# Altium schematic symbol library RA08T.SCHLIB: 18 symbols
Pins are listed as number, name and electrical type; pins without a type are passive.

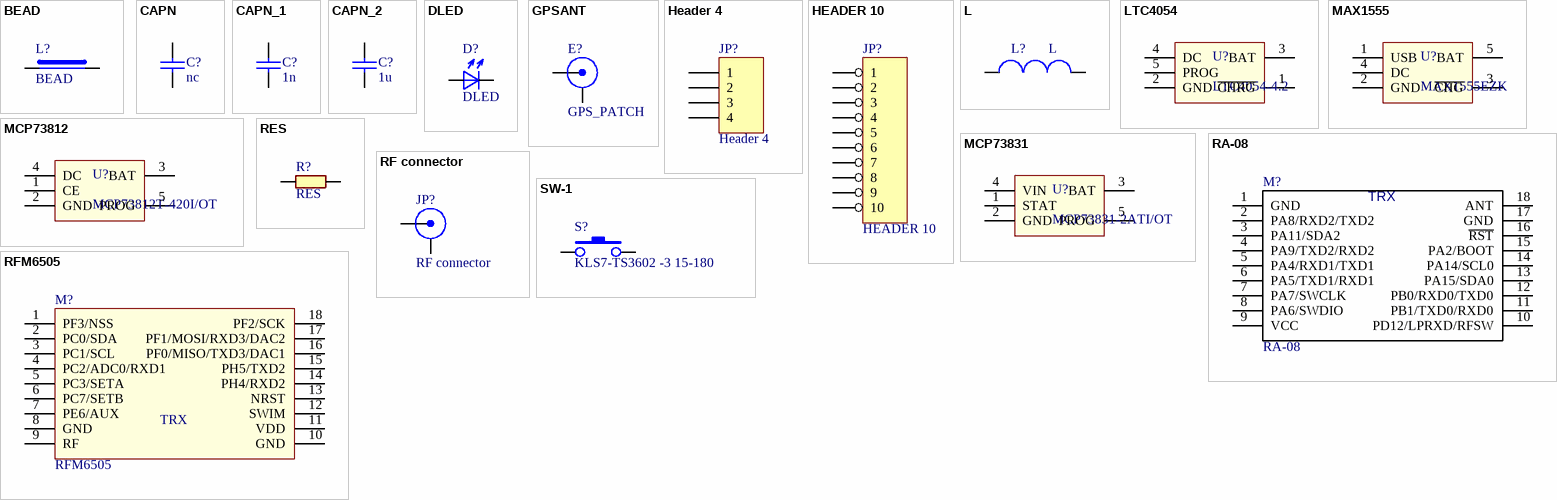
[diagram p0: symbols BEAD to SW-1]

## BEAD
designator L?
Вид: Ferrite bead
footprint L-1210
footprint L-0603 (Chip Inductor, 2-Leads, Body 1,60x0,80mm, IPC Medium Density)
footprint L-0402
pins: 1, 2

## CAPN
designator C?, comment nc
Voltage: 50V; Точність/група: NP0; Вид: Конденсатор
footprint C-0603
footprint C-0805
footprint C-1206
footprint C-0402 (Chip Capacitor, 2-Leads, Body 1,00x0,50mm, IPC Medium Density)
footprint C-1210 (Chip Capacitor, 2-Leads, Body 3,20x2,50mm, IPC Medium Density)
footprint C-1812 (Chip Capacitor, 2-Leads, Body 4,50x3,20mm, IPC Medium Density)
pins: 1, 2

## CAPN_1
designator C?, comment 1n
Voltage: 50V; Точність/група: NP0; Вид: Конденсатор
footprint C-0603
footprint C-0805
footprint C-1206
footprint C-0402 (Chip Capacitor, 2-Leads, Body 1,00x0,50mm, IPC Medium Density)
footprint C-1210 (Chip Capacitor, 2-Leads, Body 3,20x2,50mm, IPC Medium Density)
footprint C-1812 (Chip Capacitor, 2-Leads, Body 4,50x3,20mm, IPC Medium Density)
pins: 1, 2

## CAPN_2
designator C?, comment 1u
Voltage: 50V; Точність/група: NP0; Вид: Конденсатор
footprint C-0603
footprint C-0805
footprint C-1206
footprint C-0402 (Chip Capacitor, 2-Leads, Body 1,00x0,50mm, IPC Medium Density)
footprint C-1210 (Chip Capacitor, 2-Leads, Body 3,20x2,50mm, IPC Medium Density)
footprint C-1812 (Chip Capacitor, 2-Leads, Body 4,50x3,20mm, IPC Medium Density)
pins: 1, 2

## DLED
designator D?
Вид: Світлодіод
footprint LED0805 (LED, Chip; 2.00 mm L X 1.25 mm W X 0.80 mm H body)
pins: 1, 2

## GPSANT
designator E?, comment GPS_PATCH
Вид: Роз'єм; *: *
footprint AMPHENOL_132357-11 (SMA End Launch Jack for 1.58mm PCB, 50 Ohm, Flat Tab Contact)
pins: 1 X, 2 Y

## Header 4
designator JP?
Header, 4-Pin; LatestRevisionDate: 17-Jul-2002; LatestRevisionNote: Re-released for DXP Platform.; Publisher: Altium Limited
footprint HDR1X4 (Connector; Header; 4 Position)
signal-integrity model Connector
footprint PLS1-4 (Header, Vertical, 2.54 mm pitch; 0.70 mm lead width, 4 pins, 1 row, 4 pins per row, 8.89 mm L X 2.54 mm W X 7.54 mm H body)
pins: 1, 2, 3, 4

## HEADER 10
designator JP?
Вид: Роз'єм; *: *
footprint PLS1-10 (Header, Vertical, 2.54 mm pitch; 0.70 mm lead width, 10 pins, 1 row, 10 pins per row, 24.13 mm L X 2.54 mm W X 7.54 mm H body)
pins: 1, 2, 3, 4, 5, 6, 7, 8, 9, 10

## L
designator L?
Вид: Індуктивність
footprint L-0402
footprint L-0603 (Chip Inductor, 2-Leads, Body 1,60x0,80mm, IPC Medium Density)
footprint L-1210 (Chip Inductor, 2-Leads, Body 3,20x2,50mm, IPC Medium Density)
pins: 1, 2

## LTC4054
designator U?, comment LTC4054-4.2
footprint SOT-23-5 (SOT23, 5-Leads, Body 2,90x2,45mm, Pitch 0,95mm, IPC Medium Density)
pins: 1 ~{CHRG}, 2 GND, 3 BAT, 4 DC, 5 PROG

## MAX1555
designator U?, comment MAX1555EZK
footprint SOT-23-5 (SOT23, 5-Leads, Body 2,90x2,45mm, Pitch 0,95mm, IPC Medium Density)
pins: 1 USB, 2 GND, 3 ~{CHG}, 4 DC, 5 BAT

## MCP73812
designator U?, comment MCP73812T-420I/OT
footprint SOT-23-5 (SOT23, 5-Leads, Body 2,90x2,45mm, Pitch 0,95mm, IPC Medium Density)
pins: 1 CE, 2 GND, 3 BAT, 4 DC, 5 PROG

## MCP73831
designator U?, comment MCP73831-2ATI/OT
footprint SOT-23-5 (SOT23, 5-Leads, Body 2,90x2,45mm, Pitch 0,95mm, IPC Medium Density)
pins: 1 STAT, 2 GND, 3 BAT, 4 VIN, 5 PROG

## RA-08
designator M?
footprint LGA18_RA08
pins: 1 GND, 2 PA8/RXD2/TXD2, 3 PA11/SDA2, 4 PA9/TXD2/RXD2, 5 PA4/RXD1/TXD1, 6 PA5/TXD1/RXD1, 7 PA7/SWCLK, 8 PA6/SWDIO, 9 VCC, 10 PD12/LPRXD/RFSW, 11 PB1/TXD0/RXD0, 12 PB0/RXD0/TXD0, 13 PA15/SDA0, 14 PA14/SCL0, 15 PA2/BOOT, 16 ~{RST}, 17 GND, 18 ANT
text: TRX

## RES
designator R?
Точність/група: 5%; Вид: Резистор
footprint R-0603
footprint R-0805
footprint R-1206
footprint R-0402 (Chip Resistor, 2-Leads, Body 1,05x0,54mm, IPC Medium Density)
footprint R-1210 (Chip Resistor, 2-Leads, Body 3,20x2,49mm, IPC Medium Density)
footprint R-0603 (Chip Resistor, 2-Leads, Body 1,60x0,82mm, IPC Medium Density)
pins: 1, 2

## RF connector
designator JP?
Вид: Роз'єм; *: *
footprint AMPHENOL_132357-11 (SMA End Launch Jack for 1.58mm PCB, 50 Ohm, Flat Tab Contact)
pins: 1 X, 2 Y

## RFM6505
designator M?
footprint RFM6505
pins: 1 PF3/NSS, 2 PC0/SDA, 3 PC1/SCL, 4 PC2/ADC0/RXD1, 5 PC3/SETA, 6 PC7/SETB, 7 PE6/AUX, 8 GND, 9 RF, 10 GND, 11 VDD, 12 SWIM, 13 NRST, 14 PH4/RXD2, 15 PH5/TXD2, 16 PF0/MISO/TXD3/DAC1, 17 PF1/MOSI/RXD3/DAC2, 18 PF2/SCK
text: TRX

## SW-1
designator S?, comment KLS7-TS3602 -3 15-180
Вид: Кнопка; Робоча напруга: *
footprint KLS7-TS3602 (miniature switch)
pins: 1, 2